# EAGLE library part IS62WV1288DALL (library sd_tos)
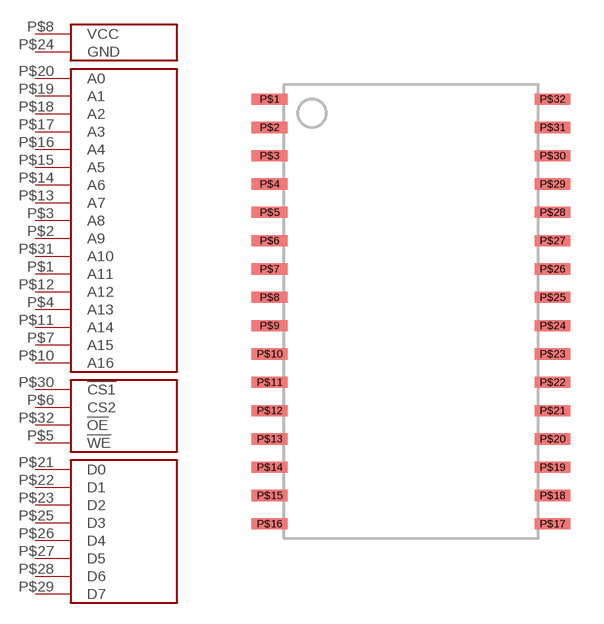
[diagram p1: symbol with the pads of SOP32L; footprint SOP32L]

Designator prefix -

## IS62WV1288DALL  [SOP32L]
P$1  A11
P$2  A9
P$3  A8
P$4  A13
P$5  !WE
P$6  CS2
P$7  A15
P$8  VCC
P$10  A16
P$11  A14
P$12  A12
P$13  A7
P$14  A6
P$15  A5
P$16  A4
P$17  A3
P$18  A2
P$19  A1
P$20  A0
P$21  D0
P$22  D1
P$23  D2
P$24  GND
P$25  D3
P$26  D4
P$27  D5
P$28  D6
P$29  D7
P$30  !CS1
P$31  A10
P$32  !OE

## Footprint SOP32L (pad centres in mm)
smd 1.6 x 0.5: P$1 -7.62,12.7; P$2 -7.62,11.43; P$3 -7.62,10.16; P$4 -7.62,8.89; P$5 -7.62,7.62; P$6 -7.62,6.35; P$7 -7.62,5.08; P$8 -7.62,3.81; P$9 -7.62,2.54; P$10 -7.62,1.27; P$11 -7.62,0; P$12 -7.62,-1.27; P$13 -7.62,-2.54; P$14 -7.62,-3.81; P$15 -7.62,-5.08; P$16 -7.62,-6.35; P$17 5.08,-6.35; P$18 5.08,-5.08; P$19 5.08,-3.81; P$20 5.08,-2.54; P$21 5.08,-1.27; P$22 5.08,0; P$23 5.08,1.27; P$24 5.08,2.54; P$25 5.08,3.81; P$26 5.08,5.08; P$27 5.08,6.35; P$28 5.08,7.62; P$29 5.08,8.89; P$30 5.08,10.16; P$31 5.08,11.43; P$32 5.08,12.7